# Altium footprint library Yageo.PcbLib: 6 footprints
Each footprint in its own frame and in the unit in brackets; x right, y up, seen from the top. Pads: shape width x height; smd on the part's side, far side on the other; paste and mask are expansions set on the pad; w line width, h text height; cw(c..) or ccw(c..) is an arc to the next point about the centre after c.
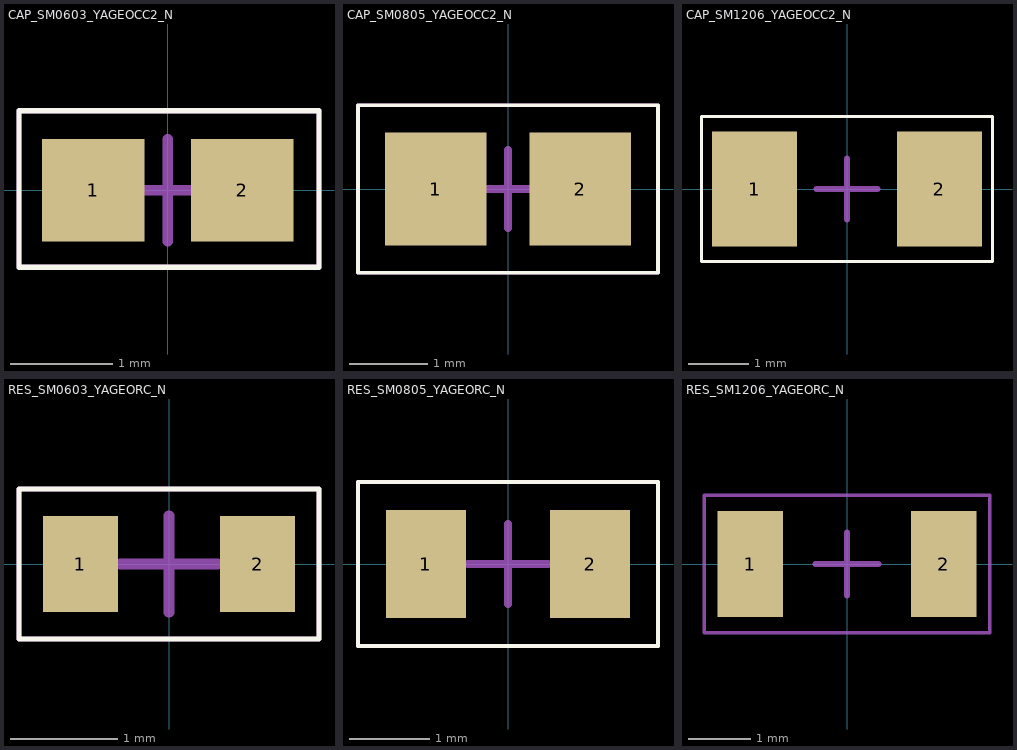
[diagram p0: the footprints below, top view; thin cyan lines are the x and y axes]

## CAP_SM0603_YAGEOCC2_N [mm] "Capacitor, Yageo CC Class2, SM0603, IPC Medium Density"
height 0.9
pads (2):
  rect 1x1 smd: 1(-0.727,0) 2(0.727,0)
Top Overlay:
  lines w0.05: -1.45,-0.75 -1.45,0.775 1.475,0.775 1.475,-0.75 -1.45,-0.75
Top Courtyard (Mech15):
  lines w0.05: -1.45,-0.75 1.475,-0.75 1.475,0.775 -1.45,0.775 -1.45,-0.75
  lines w0.1: -0.5,0 0.5,0 ; 0,-0.5 0,0.5
  text "'.Designator'" at -1.285,-0.493 h0.2
3D body: height 0.9, standoff 0, extent -0.9,-0.5 -0.5,0.5
3D body: height 0.9, standoff 0, extent 0.5,-0.5 0.9,0.5
3D body: height 0.9, standoff 0, extent -0.5,-0.5 0.5,0.5

## CAP_SM0805_YAGEOCC2_N [mm] "Capacitor, Yageo CC Class2, SM0805, IPC Medium Density"
height 1.45
pads (2):
  rect 1.3x1.45 smd: 1(-0.927,0) 2(0.927,0)
Top Overlay:
  lines w0.05: -1.925,-1.075 1.925,-1.075 1.925,1.075 -1.925,1.075 -1.925,-1.075
Top Courtyard (Mech15):
  lines w0.05: -1.925,-1.075 1.925,-1.075 1.925,1.075 -1.925,1.075 -1.925,-1.075
  lines w0.1: -0.5,0 0.5,0 ; 0,-0.5 0,0.5
  text "'.Designator'" at -1.385,0.682 h0.2
3D body: height 1.45, standoff 0, extent -1.1,-0.725 -0.6,0.725
3D body: height 1.45, standoff 0, extent 0.6,-0.725 1.1,0.725
3D body: height 1.45, standoff 0, extent -0.6,-0.725 0.6,0.725

## CAP_SM1206_YAGEOCC2_N [mm] "Capacitor, Yageo CC Class2, SM1206, IPC Medium Density"
height 1.8
pads (2):
  rect 1.4x1.9 smd: 1(-1.527,0) 2(1.527,0)
Top Overlay:
  lines w0.05: -2.4,-1.2 2.4,-1.2 2.4,1.2 -2.4,1.2 -2.4,-1.2
Top Courtyard (Mech15):
  lines w0.05: -2.4,-1.2 2.4,-1.2 2.4,1.2 -2.4,1.2 -2.4,-1.2
  lines w0.1: -0.5,0 0.5,0 ; 0,-0.5 0,0.5
  text "'.Designator'" at -2.287,-0.94 h0.2
3D body: height 1.8, standoff 0, extent -1.75,-0.95 -1.25,0.95
3D body: height 1.8, standoff 0, extent 1.25,-0.95 1.75,0.95
3D body: height 1.8, standoff 0, extent -1.25,-0.95 1.25,0.95

## RES_SM0603_YAGEORC_N [mm] "Resistor, Yageo RC_L, SM0603, IPC Medium Density"
height 0.55
pads (2):
  rect 0.7x0.9 smd: 1(-0.827,0) 2(0.827,0)
Top Overlay:
  lines w0.05: -1.4,-0.7 1.4,-0.7 1.4,0.7 -1.4,0.7 -1.4,-0.7
Top Courtyard (Mech15):
  lines w0.05: -1.4,-0.7 1.4,-0.7 1.4,0.7 -1.4,0.7 -1.4,-0.7
  lines w0.1: -0.45,0 0.45,0 ; 0,-0.45 0,0.45
  text "'.Designator'" at -1.235,-0.443 h0.2
3D body: height 0.55, standoff 0, extent -0.85,-0.45 -0.6,0.45
3D body: height 0.55, standoff 0, extent 0.6,-0.45 0.85,0.45
3D body: height 0.55, standoff 0, extent -0.6,-0.45 0.6,0.45

## RES_SM0805_YAGEORC_N [mm] "Resistor, Yageo RC_L, SM0805, IPC Medium Density"
height 0.6
pads (2):
  rect 1x1.35 smd: 1(-1.027,0) 2(1.027,0)
Top Overlay:
  lines w0.05: -1.875,-1.025 -1.875,1.025 1.875,1.025 1.875,-1.025 -1.875,-1.025
Top Courtyard (Mech15):
  lines w0.05: -1.875,-1.025 -1.875,1.025 1.875,1.025 1.875,-1.025 -1.875,-1.025
  lines w0.1: -0.5,0 0.5,0 ; 0,-0.5 0,0.5
  text "'.Designator'" at -1.585,-0.668 h0.2
3D body: height 0.6, standoff 0, extent -0.7,-0.675 0.7,0.675
3D body: height 0.6, standoff 0, extent -1.05,-0.675 -0.7,0.675
3D body: height 0.6, standoff 0, extent 0.7,-0.675 1.05,0.675

## RES_SM1206_YAGEORC_N [mm] "Resistor, Yageo RC_L, SM1206, IPC Medium Density"
height 0.65
pads (2):
  rect 1.05x1.7 smd: 1(-1.552,0) 2(1.552,0)
Top Courtyard (Mech15):
  lines w0.05: -2.286,-1.1 2.286,-1.1 2.286,1.1 -2.286,1.1 -2.286,-1.1
  lines w0.1: -0.5,0 0.5,0 ; 0,-0.5 0,0.5
  text "'.Designator'" at -2.137,-0.846 h0.2
3D body: height 0.65, standoff 0, extent -1.2,-0.85 1.2,0.85
3D body: height 0.65, standoff 0, extent -1.6,-0.85 -1.2,0.85
3D body: height 0.65, standoff 0, extent 1.2,-0.85 1.6,0.85